# EAGLE library part 7SEGDISP (library bens)
7- Segment Display Color Red Dimension Height: .738 in. Width: .388 in.
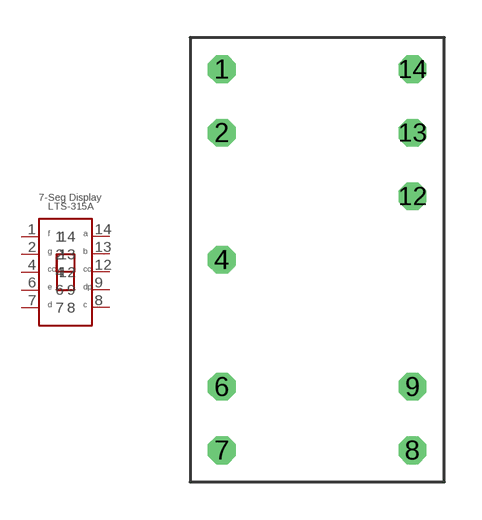
[diagram p0: symbol with the pads of 7SEGDISP; footprint 7SEGDISP]

Designator prefix -

## 7SEGDISP  [7SEGDISP]
1  1  in
2  2  in
4  4  in
6  6  in
7  7  in
8  8  in
9  9  in
12  12  in
13  13  in
14  14  in

## Footprint 7SEGDISP (pad centres in mm)
7 Segment Display LTS-315A
drill 0.6 pad 0.813 octagon: 1 -2.54,7.62; 2 -2.54,5.08; 4 -2.54,0; 6 -2.54,-5.08; 7 -2.54,-7.62; 8 5.08,-7.62; 9 5.08,-5.08; 12 5.08,2.54; 13 5.08,5.08; 14 5.08,7.62